# EAGLE library part 1296-T54 (library con-leotronics)
1.27mm SINGLE ROW FEMALE SOCKET Source: http://www.leotronics.co.uk/Conexcon/Data%20Sheets/sec.%20A/1296ing.pdf
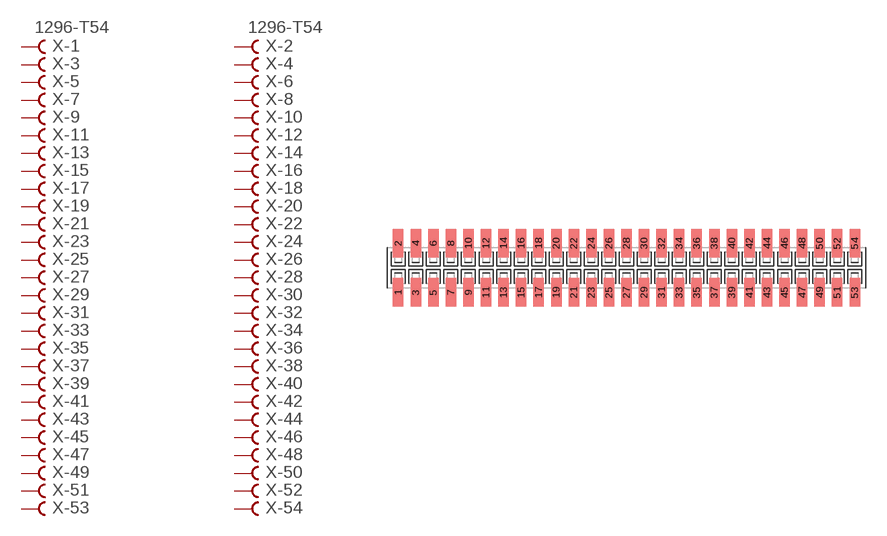
[diagram p59: symbol with the pads of 1296-54; footprint 1296-54]

Designator prefix X; gates -1=FVAL -2=FVAL -3=F -4=F -5=F -6=F -7=F -8=F -9=F -10=F -11=F -12=F -13=F -14=F -15=F -16=F -17=F -18=F -19=F -20=F -21=F -22=F -23=F -24=F -25=F -26=F -27=F -28=F -29=F -30=F -31=F -32=F -33=F -34=F -35=F -36=F -37=F -38=F -39=F -40=F -41=F -42=F -43=F -44=F -45=F -46=F -47=F -48=F -49=F -50=F -51=F -52=F -53=F -54=F

## 1296-T54 (OC_FARNELL: unknown; OC_NEWARK: unknown)  [1296-54]
1  -1:B  pas
2  -2:B  pas
3  -3:B  pas
4  -4:B  pas
5  -5:B  pas
6  -6:B  pas
7  -7:B  pas
8  -8:B  pas
9  -9:B  pas
10  -10:B  pas
11  -11:B  pas
12  -12:B  pas
13  -13:B  pas
14  -14:B  pas
15  -15:B  pas
16  -16:B  pas
17  -17:B  pas
18  -18:B  pas
19  -19:B  pas
20  -20:B  pas
21  -21:B  pas
22  -22:B  pas
23  -23:B  pas
24  -24:B  pas
25  -25:B  pas
26  -26:B  pas
27  -27:B  pas
28  -28:B  pas
29  -29:B  pas
30  -30:B  pas
31  -31:B  pas
32  -32:B  pas
33  -33:B  pas
34  -34:B  pas
35  -35:B  pas
36  -36:B  pas
37  -37:B  pas
38  -38:B  pas
39  -39:B  pas
40  -40:B  pas
41  -41:B  pas
42  -42:B  pas
43  -43:B  pas
44  -44:B  pas
45  -45:B  pas
46  -46:B  pas
47  -47:B  pas
48  -48:B  pas
49  -49:B  pas
50  -50:B  pas
51  -51:B  pas
52  -52:B  pas
53  -53:B  pas
54  -54:B  pas

## Footprint 1296-54 (pad centres in mm)
1.27mm SINGLE ROW FEMALE SOCKET Source: http://www.leotronics.co.uk/Conexcon/Data%20Sheets/sec.%20A/1296ing.pdf
smd 0.76 x 2.05: 1 -16.51,-1.78; 2 -16.51,1.78; 3 -15.24,-1.78; 4 -15.24,1.78; 5 -13.97,-1.78; 6 -13.97,1.78; 7 -12.7,-1.78; 8 -12.7,1.78; 9 -11.43,-1.78; 10 -11.43,1.78; 11 -10.16,-1.78; 12 -10.16,1.78; 13 -8.89,-1.78; 14 -8.89,1.78; 15 -7.62,-1.78; 16 -7.62,1.78; 17 -6.35,-1.78; 18 -6.35,1.78; 19 -5.08,-1.78; 20 -5.08,1.78; 21 -3.81,-1.78; 22 -3.81,1.78; 23 -2.54,-1.78; 24 -2.54,1.78; 25 -1.27,-1.78; 26 -1.27,1.78; 27 0,-1.78; 28 0,1.78; 29 1.27,-1.78; 30 1.27,1.78; 31 2.54,-1.78; 32 2.54,1.78; 33 3.81,-1.78; 34 3.81,1.78; 35 5.08,-1.78; 36 5.08,1.78; 37 6.35,-1.78; 38 6.35,1.78; 39 7.62,-1.78; 40 7.62,1.78; 41 8.89,-1.78; 42 8.89,1.78; 43 10.16,-1.78; 44 10.16,1.78; 45 11.43,-1.78; 46 11.43,1.78; 47 12.7,-1.78; 48 12.7,1.78; 49 13.97,-1.78; 50 13.97,1.78; 51 15.24,-1.78; 52 15.24,1.78; 53 16.51,-1.78; 54 16.51,1.78